# Altium footprint library 3V3LDO_TPS73733DRV.PcbLib: 1 footprints
Each footprint in its own frame and in the unit in brackets; x right, y up, seen from the top. Pads: shape width x height; smd on the part's side, far side on the other; paste and mask are expansions set on the pad; w line width, h text height; cw(c..) or ccw(c..) is an arc to the next point about the centre after c.
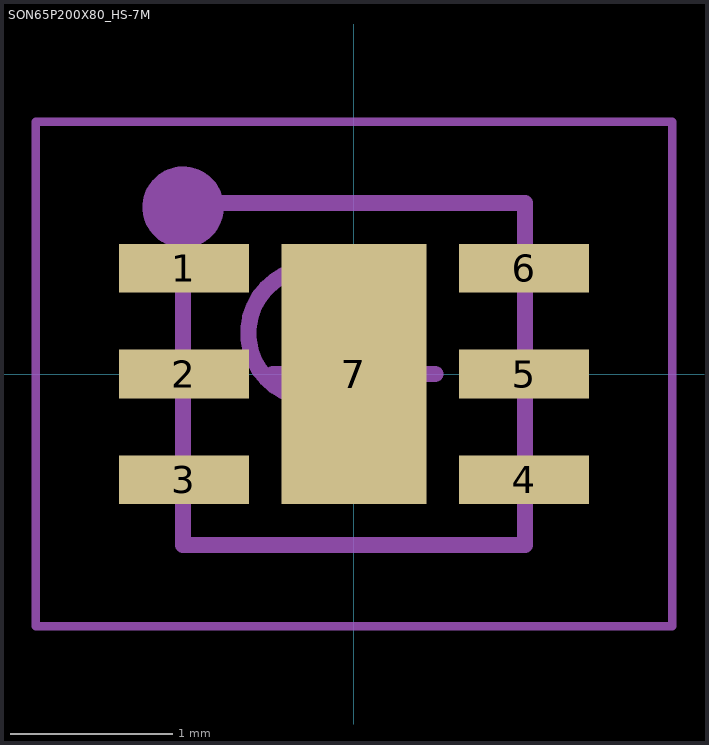
[diagram p0: the footprint, top view; thin cyan lines are the x and y axes]

## SON65P200X80_HS-7M [mm] "SON, 6-Leads, Body 2.00x2.00mm, Pitch 0.65mm, Thermal Pad 1.60x0.89mm, IPC Low Density"
height 0.8
pads (7):
  rect 0.8x0.3 smd: 1(-1.045,0.65) 2(-1.045,0) 3(-1.045,-0.65) 4(1.045,-0.65) 5(1.045,0) 6(1.045,0.65)
  rect 0.89x1.6 smd paste-0.445: 7(0,0)
Top Paste:
  rectangle: -0.35,-0.625 0.35,-0.225
  rectangle: -0.35,0.2 0.35,0.6
Mechanical 6:
  text "'.Designator'" at -0.75,-0.15 h0.3
Mechanical 8:
  circle w0.25: c-1.05,1.025 r0.125
  lines w0.05: -1.955,-1.55 1.955,-1.55 1.955,1.55 -1.955,1.55 -1.955,-1.55
Mechanical 13:
  circle w0.1: c-0.25,0.25 r0.4
  lines w0.1: -1.05,-1.05 -1.05,1.05 1.05,1.05 1.05,-1.05 -1.05,-1.05
Mechanical 15:
  lines w0.05: -1.955,-1.55 -1.955,1.55 1.955,1.55 1.955,-1.55 -1.955,-1.55
  lines w0.1: -0.5,0 0.5,0 ; 0,-0.5 0,0.5
3D body "SON65P200X80_HS-7M.step": height 0.8, standoff 0, extent -1.1,-1.05 1.1,1.05